# Altium footprint library JAjchel_footprint.PcbLib: 1 footprints
Each footprint in its own frame and in the unit in brackets; x right, y up, seen from the top. Pads: shape width x height; smd on the part's side, far side on the other; paste and mask are expansions set on the pad; w line width, h text height; cw(c..) or ccw(c..) is an arc to the next point about the centre after c.
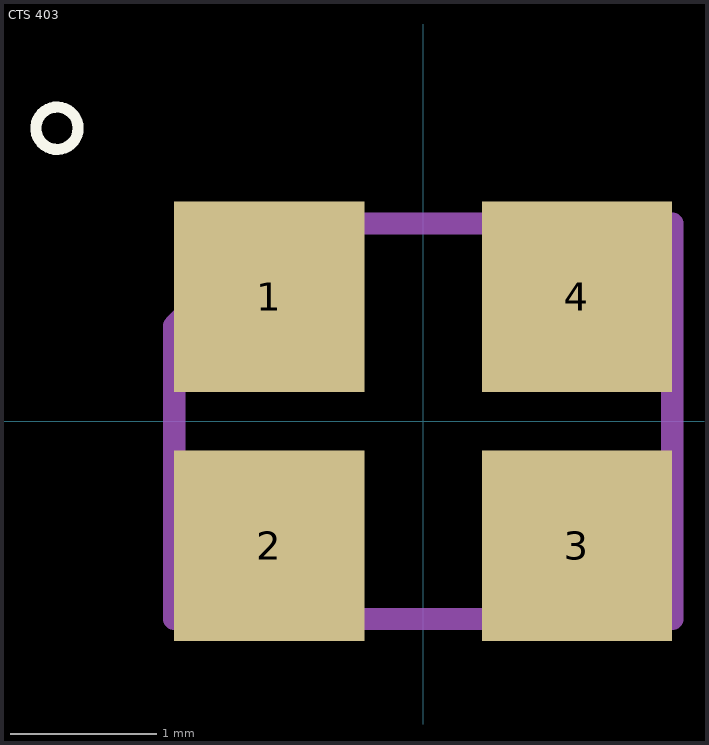
[diagram p0: the footprint, top view; thin cyan lines are the x and y axes]

## CTS 403 [mm]
pads (4):
  rect 1.3x1.3 smd: 1(-1.05,0.85) 2(-1.05,-0.85) 3(1.05,-0.85) 4(1.05,0.85)
Top Overlay:
  circle w0.076: c-2.5,2 r0.144
Mechanical 13:
  lines w0.152: -1.7,0.65 -1.7,-1.35 1.7,-1.35 1.7,1.35 -1,1.35 ; -1.7,0.65 -1,1.35 ; -1.7,0.65 -1,1.35
3D body "User Library-CTS.STEP": height 0.77, standoff 0, extent -1.6,-1.25 1.6,1.25